# EAGLE library part WINGX_ACPL-827-00CE (library arduinoModuleSVS)
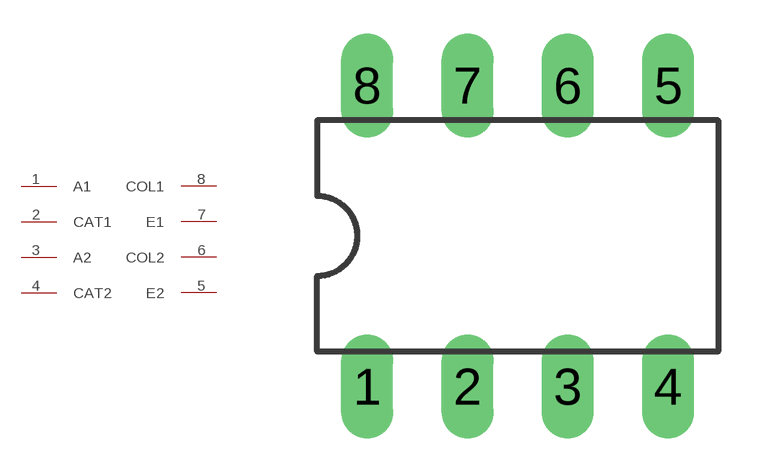
[diagram p3: symbol with the pads of WINGX_DIL08; footprint WINGX_DIL08]

Designator prefix -

## WINGX_ACPL-827-00CE  [WINGX_DIL08]
1  A1
2  CAT1
3  A2
4  CAT2
5  E2
6  COL2
7  E1
8  COL1

## Footprint WINGX_DIL08 (pad centres in mm)
Dual In Line Package
drill 0.813 long: 1 -3.81,-3.81; 2 -1.27,-3.81; 3 1.27,-3.81; 4 3.81,-3.81; 5 3.81,3.81; 6 1.27,3.81; 7 -1.27,3.81; 8 -3.81,3.81